# Altium schematic symbol library CardSockets.SchLib: 4 symbols
Pins are listed as number, name and electrical type; pins without a type are passive.

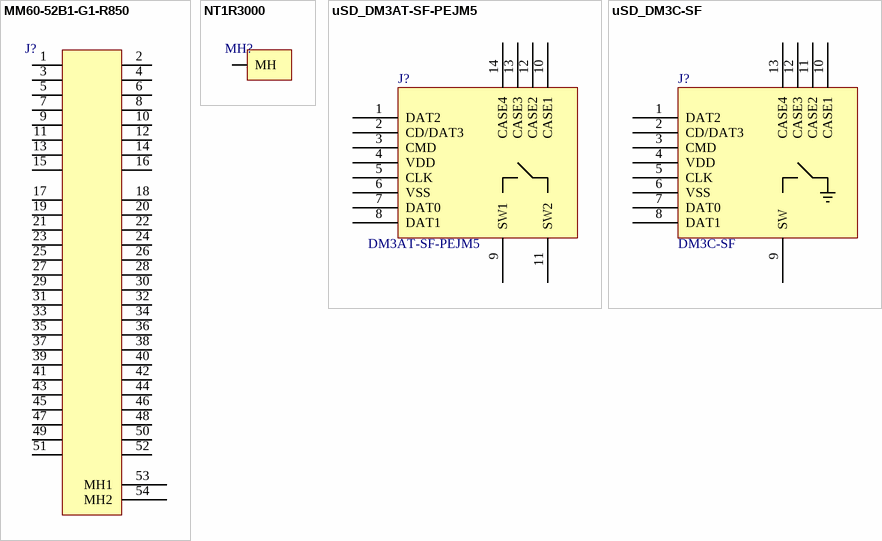
[diagram p0: symbols MM60-52B1-G1-R850 to uSD_DM3C-SF]

## MM60-52B1-G1-R850
designator J?  (value not drawn)
=Description
footprint MM60-52B1-G1-R850 (CONN 52POS MINI EXPRESS CARD SMD)
pins: 1, 2, 3, 4, 5, 6, 7, 8, 9, 10, 11, 12, 13, 14, 15, 16, 17, 18, 19, 20, 21, 22, 23, 24, 25, 26, 27, 28, 29, 30, 31, 32, 33, 34, 35, 36, 37, 38, 39, 40, 41, 42, 43, 44, 45, 46, 47, 48, 49, 50, 51, 52, 53 MH1, 54 MH2

## NT1R3000
designator MH?  (value not drawn)
=description
pins: MH

## uSD_DM3AT-SF-PEJM5
designator J?, comment DM3AT-SF-PEJM5
=description
pins: 1 DAT2, 2 CD/DAT3, 3 CMD, 4 VDD, 5 CLK, 6 VSS, 7 DAT0, 8 DAT1, 9 SW1, 10 CASE1, 11 SW2, 12 CASE2, 13 CASE3, 14 CASE4

## uSD_DM3C-SF
designator J?, comment DM3C-SF
=description
pins: 1 DAT2, 2 CD/DAT3, 3 CMD, 4 VDD, 5 CLK, 6 VSS, 7 DAT0, 8 DAT1, 9 SW, 10 CASE1, 11 CASE2, 12 CASE3, 13 CASE4